# EAGLE library part MAX3420EECJ (library HomeKinection)
The MAX3420E contains the digital logic and analog circuitry necessary to implement a full-speed USB peripheral compliant to USB specification rev 2.0. A built-in full-speed transceiver features ±15kV ESD protection and programmable USB connect and disconnect. An internal serial-interface engine (SIE) handles low-level USB protocol details such as error checking and bus retries. The MAX3420E operates using a register set accessed by an SPI? interface that operates up to 26MHz. Any SPI master (microprocessor, ASIC, DSP, etc.) can add USB functionality using the simple 3- or 4-wire SPI interface. Internal level translators allow the SPI interface to run at a system voltage between 1.71V and 3.6V. USB timed operations are done inside the MAX3420E with interrupts provided at completion so an SPI master does not need timers to meet USB timing requirements. The MAX3420E includes four general-purpose inputs and outputs so any microprocessor that uses I/O pins to implement the SPI interface can reclaim the I/O pins and gain additional ones. The MAX3420E operates over the extended -40°C to +85°C temperature range and is available in a 32-pin LQFP package (7mm x 7mm) and a space-saving 24- pin TQFN package (4mm x 4mm).
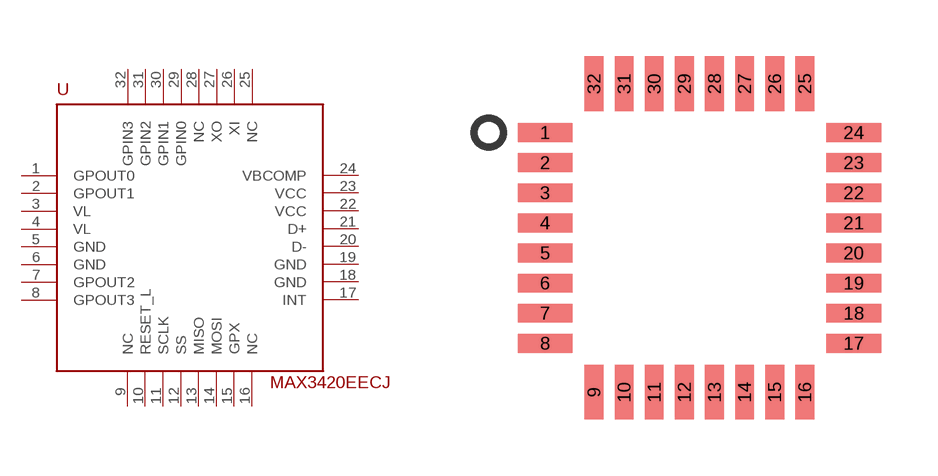
[diagram p2: symbol with the pads of 32LQFP; footprint 32LQFP]

Designator prefix -

## MAX3420EECJ  [32LQFP]
1  GPOUT0  out
2  GPOUT1  out
3  VL  in
4  VL  in
5  GND  pwr
6  GND  pwr
7  GPOUT2  out
8  GPOUT3  out
9  NC  nc
10  RESET_L  in
11  SCLK  in
12  SS  in
13  MISO  out
14  MOSI
15  GPX  out
16  NC  nc
17  INT  out
18  GND  pwr
19  GND  pwr
20  D-
21  D+
22  VCC  pwr
23  VCC  pwr
24  VBCOMP  in
25  NC  nc
26  XI  in
27  XO  out
28  NC  nc
29  GPIN0  in
30  GPIN1  in
31  GPIN2  in
32  GPIN3  in

## Footprint 32LQFP (pad centres in mm)
smd 1.45 x 0.5: 1 -4.1,2.8; 2 -4.1,2; 3 -4.1,1.2; 4 -4.1,0.4; 5 -4.1,-0.4; 6 -4.1,-1.2; 7 -4.1,-2; 8 -4.1,-2.8; 17 4.1,-2.8; 18 4.1,-2; 19 4.1,-1.2; 20 4.1,-0.4; 21 4.1,0.4; 22 4.1,1.2; 23 4.1,2; 24 4.1,2.8
smd 0.5 x 1.45: 9 -2.8,-4.1; 10 -2,-4.1; 11 -1.2,-4.1; 12 -0.4,-4.1; 13 0.4,-4.1; 14 1.2,-4.1; 15 2,-4.1; 16 2.8,-4.1; 25 2.8,4.1; 26 2,4.1; 27 1.2,4.1; 28 0.4,4.1; 29 -0.4,4.1; 30 -1.2,4.1; 31 -2,4.1; 32 -2.8,4.1